# EAGLE library part QUAD (library dec-con)
Quad-Height DEC board
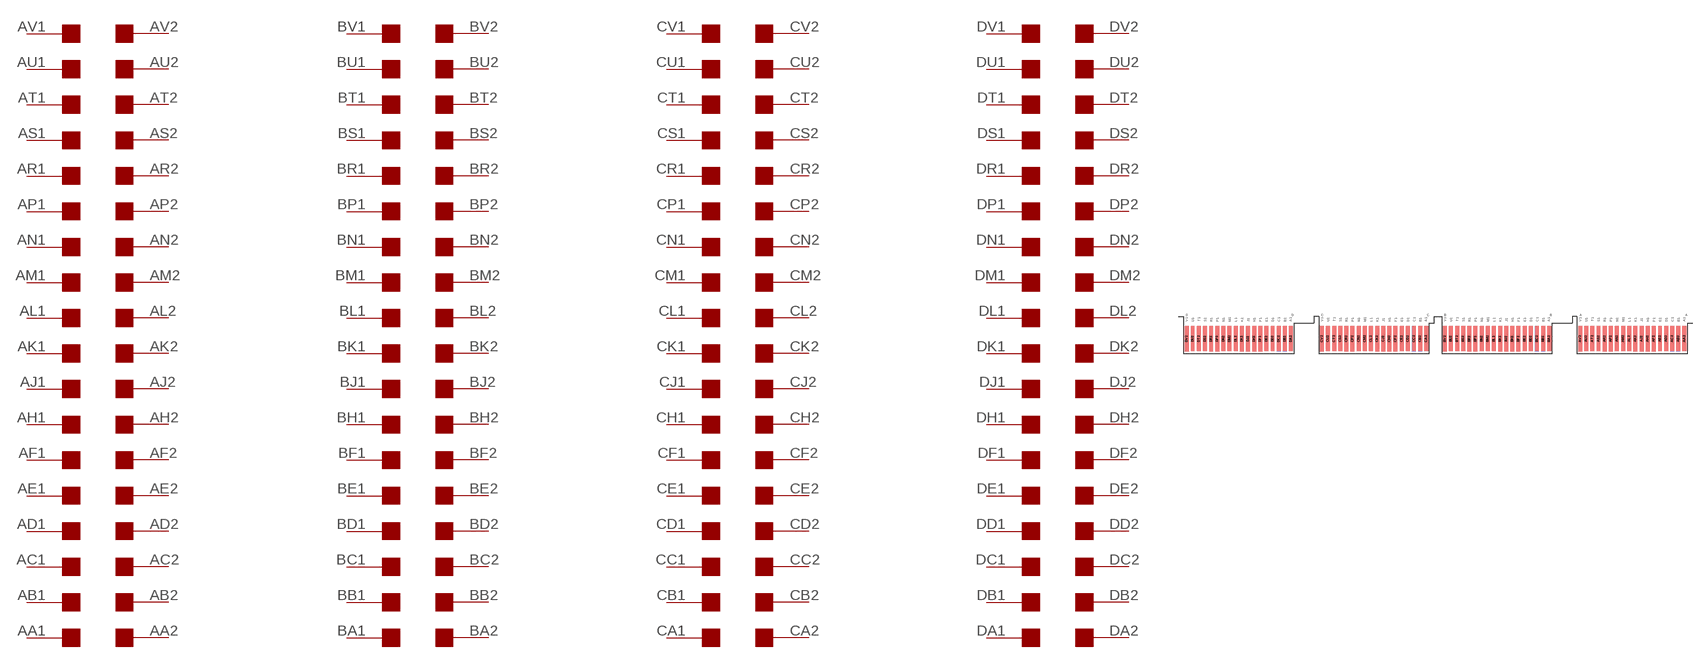
[diagram p6: symbol with the pads of EDGE-CON8; footprint EDGE-CON8]

Designator prefix -; gates AL2=EDGE-RIGHT AM2=EDGE-RIGHT AN2=EDGE-RIGHT AP2=EDGE-RIGHT AR2=EDGE-RIGHT AS2=EDGE-RIGHT AT2=EDGE-RIGHT AK2=EDGE-RIGHT AJ2=EDGE-RIGHT AH2=EDGE-RIGHT AF2=EDGE-RIGHT AE2=EDGE-RIGHT AD2=EDGE-RIGHT AC2=EDGE-RIGHT AU2=EDGE-RIGHT AV2=EDGE-RIGHT AB2=EDGE-RIGHT AA2=EDGE-RIGHT AK1=EDGE-LEFT AL1=EDGE-LEFT AM1=EDGE-LEFT AN1=EDGE-LEFT AP1=EDGE-LEFT AR1=EDGE-LEFT AS1=EDGE-LEFT AT1=EDGE-LEFT AU1=EDGE-LEFT AV1=EDGE-LEFT AJ1=EDGE-LEFT AH1=EDGE-LEFT AF1=EDGE-LEFT AE1=EDGE-LEFT AD1=EDGE-LEFT AC1=EDGE-LEFT AB1=EDGE-LEFT AA1=EDGE-LEFT BV1=EDGE-LEFT BU1=EDGE-LEFT BT1=EDGE-LEFT BS1=EDGE-LEFT BR1=EDGE-LEFT BP1=EDGE-LEFT BN1=EDGE-LEFT BM1=EDGE-LEFT BL1=EDGE-LEFT BK1=EDGE-LEFT BJ1=EDGE-LEFT BH1=EDGE-LEFT BF1=EDGE-LEFT BE1=EDGE-LEFT BD1=EDGE-LEFT BC1=EDGE-LEFT BB1=EDGE-LEFT BA1=EDGE-LEFT BV2=EDGE-RIGHT BU2=EDGE-RIGHT BT2=EDGE-RIGHT BS2=EDGE-RIGHT BR2=EDGE-RIGHT BP2=EDGE-RIGHT BN2=EDGE-RIGHT BM2=EDGE-RIGHT BL2=EDGE-RIGHT BK2=EDGE-RIGHT BJ2=EDGE-RIGHT BH2=EDGE-RIGHT BF2=EDGE-RIGHT BE2=EDGE-RIGHT BD2=EDGE-RIGHT BC2=EDGE-RIGHT BB2=EDGE-RIGHT BA2=EDGE-RIGHT CV1=EDGE-LEFT CU1=EDGE-LEFT CT1=EDGE-LEFT CS1=EDGE-LEFT CR1=EDGE-LEFT CP1=EDGE-LEFT CN1=EDGE-LEFT CM1=EDGE-LEFT CL1=EDGE-LEFT CK1=EDGE-LEFT CJ1=EDGE-LEFT CH1=EDGE-LEFT CF1=EDGE-LEFT CE1=EDGE-LEFT CD1=EDGE-LEFT CC1=EDGE-LEFT CB1=EDGE-LEFT CA1=EDGE-LEFT DV1=EDGE-LEFT DU1=EDGE-LEFT DT1=EDGE-LEFT DS1=EDGE-LEFT DR1=EDGE-LEFT DP1=EDGE-LEFT DN1=EDGE-LEFT DM1=EDGE-LEFT DL1=EDGE-LEFT DK1=EDGE-LEFT DJ1=EDGE-LEFT DH1=EDGE-LEFT DF1=EDGE-LEFT DE1=EDGE-LEFT DD1=EDGE-LEFT DC1=EDGE-LEFT DB1=EDGE-LEFT DA1=EDGE-LEFT CV2=EDGE-RIGHT CU2=EDGE-RIGHT CT2=EDGE-RIGHT CS2=EDGE-RIGHT CR2=EDGE-RIGHT CP2=EDGE-RIGHT CN2=EDGE-RIGHT CM2=EDGE-RIGHT CL2=EDGE-RIGHT CK2=EDGE-RIGHT CJ2=EDGE-RIGHT CH2=EDGE-RIGHT CF2=EDGE-RIGHT CE2=EDGE-RIGHT CD2=EDGE-RIGHT CC2=EDGE-RIGHT CB2=EDGE-RIGHT CA2=EDGE-RIGHT DV2=EDGE-RIGHT DU2=EDGE-RIGHT DT2=EDGE-RIGHT DS2=EDGE-RIGHT DR2=EDGE-RIGHT DP2=EDGE-RIGHT DN2=EDGE-RIGHT DM2=EDGE-RIGHT DL2=EDGE-RIGHT DK2=EDGE-RIGHT DJ2=EDGE-RIGHT DH2=EDGE-RIGHT DF2=EDGE-RIGHT DE2=EDGE-RIGHT DD2=EDGE-RIGHT DC2=EDGE-RIGHT DB2=EDGE-RIGHT DA2=EDGE-RIGHT

## QUAD  [EDGE-CON8]
AA1  AA1:1  pas
AA2  AA2:1  pas
AB1  AB1:1  pas
AB2  AB2:1  pas
AC1  AC1:1  pas
AC2  AC2:1  pas
AD1  AD1:1  pas
AD2  AD2:1  pas
AE1  AE1:1  pas
AE2  AE2:1  pas
AF1  AF1:1  pas
AF2  AF2:1  pas
AH1  AH1:1  pas
AH2  AH2:1  pas
AJ1  AJ1:1  pas
AJ2  AJ2:1  pas
AK1  AK1:1  pas
AK2  AK2:1  pas
AL1  AL1:1  pas
AL2  AL2:1  pas
AM1  AM1:1  pas
AM2  AM2:1  pas
AN1  AN1:1  pas
AN2  AN2:1  pas
AP1  AP1:1  pas
AP2  AP2:1  pas
AR1  AR1:1  pas
AR2  AR2:1  pas
AS1  AS1:1  pas
AS2  AS2:1  pas
AT1  AT1:1  pas
AT2  AT2:1  pas
AU1  AU1:1  pas
AU2  AU2:1  pas
AV1  AV1:1  pas
AV2  AV2:1  pas
BA1  BA1:1  pas
BA2  BA2:1  pas
BB1  BB1:1  pas
BB2  BB2:1  pas
BC1  BC1:1  pas
BC2  BC2:1  pas
BD1  BD1:1  pas
BD2  BD2:1  pas
BE1  BE1:1  pas
BE2  BE2:1  pas
BF1  BF1:1  pas
BF2  BF2:1  pas
BH1  BH1:1  pas
BH2  BH2:1  pas
BJ1  BJ1:1  pas
BJ2  BJ2:1  pas
BK1  BK1:1  pas
BK2  BK2:1  pas
BL1  BL1:1  pas
BL2  BL2:1  pas
BM1  BM1:1  pas
BM2  BM2:1  pas
BN1  BN1:1  pas
BN2  BN2:1  pas
BP1  BP1:1  pas
BP2  BP2:1  pas
BR1  BR1:1  pas
BR2  BR2:1  pas
BS1  BS1:1  pas
BS2  BS2:1  pas
BT1  BT1:1  pas
BT2  BT2:1  pas
BU1  BU1:1  pas
BU2  BU2:1  pas
BV1  BV1:1  pas
BV2  BV2:1  pas
CA1  CA1:1  pas
CA2  CA2:1  pas
CB1  CB1:1  pas
CB2  CB2:1  pas
CC1  CC1:1  pas
CC2  CC2:1  pas
CD1  CD1:1  pas
CD2  CD2:1  pas
CE1  CE1:1  pas
CE2  CE2:1  pas
CF1  CF1:1  pas
CF2  CF2:1  pas
CH1  CH1:1  pas
CH2  CH2:1  pas
CJ1  CJ1:1  pas
CJ2  CJ2:1  pas
CK1  CK1:1  pas
CK2  CK2:1  pas
CL1  CL1:1  pas
CL2  CL2:1  pas
CM1  CM1:1  pas
CM2  CM2:1  pas
CN1  CN1:1  pas
CN2  CN2:1  pas
CP1  CP1:1  pas
CP2  CP2:1  pas
CR1  CR1:1  pas
CR2  CR2:1  pas
CS1  CS1:1  pas
CS2  CS2:1  pas
CT1  CT1:1  pas
CT2  CT2:1  pas
CU1  CU1:1  pas
CU2  CU2:1  pas
CV1  CV1:1  pas
CV2  CV2:1  pas
DA1  DA1:1  pas
DA2  DA2:1  pas
DB1  DB1:1  pas
DB2  DB2:1  pas
DC1  DC1:1  pas
DC2  DC2:1  pas
DD1  DD1:1  pas
DD2  DD2:1  pas
DE1  DE1:1  pas
DE2  DE2:1  pas
DF1  DF1:1  pas
DF2  DF2:1  pas
DH1  DH1:1  pas
DH2  DH2:1  pas
DJ1  DJ1:1  pas
DJ2  DJ2:1  pas
DK1  DK1:1  pas
DK2  DK2:1  pas
DL1  DL1:1  pas
DL2  DL2:1  pas
DM1  DM1:1  pas
DM2  DM2:1  pas
DN1  DN1:1  pas
DN2  DN2:1  pas
DP1  DP1:1  pas
DP2  DP2:1  pas
DR1  DR1:1  pas
DR2  DR2:1  pas
DS1  DS1:1  pas
DS2  DS2:1  pas
DT1  DT1:1  pas
DT2  DT2:1  pas
DU1  DU1:1  pas
DU2  DU2:1  pas
DV1  DV1:1  pas
DV2  DV2:1  pas

## Footprint EDGE-CON8 (pad centres in mm)
Double-Height DEC board
smd 2.032 x 13.017: AA1 261.223,7.709; AB1 258.118,7.684; AC1 254.956,7.684; AD1 251.765,7.684; AE1 248.59,7.693; AF1 245.389,7.668; AH1 242.24,7.668; AJ1 239.09,7.668; AK1 235.915,7.668; AL1 232.74,7.693; AM1 229.54,7.693; AN1 226.39,7.693; AP1 223.19,7.668; AR1 220.04,7.668; AS1 216.865,7.693; AT1 213.69,7.693; AU1 210.49,7.693; AV1 207.404,7.668; BA1 191.373,7.709; BB1 188.268,7.684; BC1 185.106,7.684; BD1 181.915,7.684; BE1 178.74,7.693; BF1 175.539,7.668; BH1 172.39,7.668; BJ1 169.24,7.668; BK1 166.065,7.668; BL1 162.89,7.693; BM1 159.69,7.693; BN1 156.54,7.693; BP1 153.34,7.668; BR1 150.19,7.668; BS1 147.015,7.693; BT1 143.84,7.693; BU1 140.64,7.693; BV1 137.554,7.668; CA1 127.873,7.709; CB1 124.768,7.684; CC1 121.606,7.684; CD1 118.415,7.684; CE1 115.24,7.693; CF1 112.039,7.668; CH1 108.89,7.668; CJ1 105.74,7.668; CK1 102.565,7.668; CL1 99.39,7.693; CM1 96.19,7.693; CN1 93.04,7.693; CP1 89.84,7.668; CR1 86.69,7.668; CS1 83.515,7.693; CT1 80.34,7.693; CU1 77.14,7.693; CV1 74.054,7.668; DA1 58.023,7.709; DB1 54.918,7.684; DC1 51.756,7.684; DD1 48.565,7.684; DE1 45.39,7.693; DF1 42.189,7.668; DH1 39.04,7.668; DJ1 35.89,7.668; DK1 32.715,7.668; DL1 29.54,7.693; DM1 26.34,7.693; DN1 23.19,7.693; DP1 19.99,7.668; DR1 16.84,7.668; DS1 13.665,7.693; DT1 10.49,7.693; DU1 7.29,7.693; DV1 4.204,7.668
smd 2.032 x 13.017 bottom: AA2 261.223,7.69; AB2 258.102,7.668; AC2 254.94,7.668; AD2 251.765,7.693; AE2 248.59,7.693; AF2 245.389,7.642; AH2 242.24,7.642; AJ2 239.09,7.668; AK2 235.915,7.668; AL2 232.74,7.693; AM2 229.54,7.693; AN2 226.39,7.693; AP2 223.19,7.668; AR2 220.04,7.668; AS2 216.865,7.693; AT2 213.69,7.693; AU2 210.464,7.693; AV2 207.404,7.668; BA2 191.373,7.69; BB2 188.252,7.668; BC2 185.09,7.668; BD2 181.915,7.693; BE2 178.74,7.693; BF2 175.539,7.642; BH2 172.39,7.642; BJ2 169.24,7.668; BK2 166.065,7.668; BL2 162.89,7.693; BM2 159.69,7.693; BN2 156.54,7.693; BP2 153.34,7.668; BR2 150.19,7.668; BS2 147.015,7.693; BT2 143.84,7.693; BU2 140.614,7.693; BV2 137.554,7.668; CA2 127.873,7.69; CB2 124.752,7.668; CC2 121.59,7.668; CD2 118.415,7.693; CE2 115.24,7.693; CF2 112.039,7.642; CH2 108.89,7.642; CJ2 105.74,7.668; CK2 102.565,7.668; CL2 99.39,7.693; CM2 96.19,7.693; CN2 93.04,7.693; CP2 89.84,7.668; CR2 86.69,7.668; CS2 83.515,7.693; CT2 80.34,7.693; CU2 77.114,7.693; CV2 74.054,7.668; DA2 58.023,7.69; DB2 54.902,7.668; DC2 51.74,7.668; DD2 48.565,7.693; DE2 45.39,7.693; DF2 42.189,7.642; DH2 39.04,7.642; DJ2 35.89,7.668; DK2 32.715,7.668; DL2 29.54,7.693; DM2 26.34,7.693; DN2 23.19,7.693; DP2 19.99,7.668; DR2 16.84,7.668; DS2 13.665,7.693; DT2 10.49,7.693; DU2 7.264,7.693; DV2 4.204,7.668